# Altium footprint library Components - 25.02.24 - 14.16.PcbLib: 4 footprints
Each footprint in its own frame and in the unit in brackets; x right, y up, seen from the top. Pads: shape width x height; smd on the part's side, far side on the other; paste and mask are expansions set on the pad; w line width, h text height; cw(c..) or ccw(c..) is an arc to the next point about the centre after c.
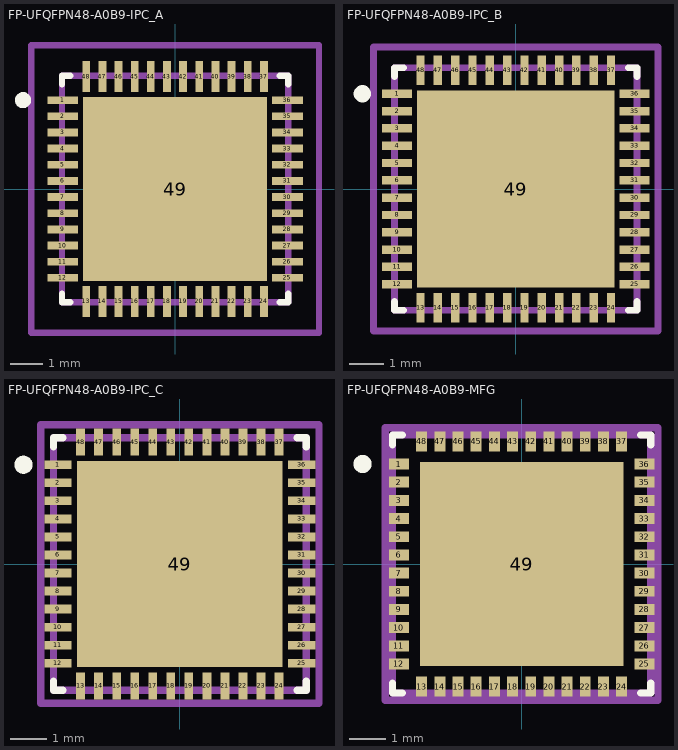
[diagram p0: the footprints below, top view; thin cyan lines are the x and y axes]

## FP-UFQFPN48-A0B9-IPC_A [mm]
pads (49):
  rect 0.956x0.242 smd paste+0: 1(-3.478,2.75) 2(-3.478,2.25) 3(-3.478,1.75) 4(-3.478,1.25) 5(-3.478,0.75) 6(-3.478,0.25) 7(-3.478,-0.25) 8(-3.478,-0.75) 9(-3.478,-1.25) 10(-3.478,-1.75) 11(-3.478,-2.25) 12(-3.478,-2.75) 25(3.478,-2.75) 26(3.478,-2.25) 27(3.478,-1.75) 28(3.478,-1.25) 29(3.478,-0.75) 30(3.478,-0.25) 31(3.478,0.25) 32(3.478,0.75) 33(3.478,1.25) 34(3.478,1.75) 35(3.478,2.25) 36(3.478,2.75)
  rect 0.242x0.956 smd paste+0: 13(-2.75,-3.478) 14(-2.25,-3.478) 15(-1.75,-3.478) 16(-1.25,-3.478) 17(-0.75,-3.478) 18(-0.25,-3.478) 19(0.25,-3.478) 20(0.75,-3.478) 21(1.25,-3.478) 22(1.75,-3.478) 23(2.25,-3.478) 24(2.75,-3.478) 37(2.75,3.478) 38(2.25,3.478) 39(1.75,3.478) 40(1.25,3.478) 41(0.75,3.478) 42(0.25,3.478) 43(-0.25,3.478) 44(-0.75,3.478) 45(-1.25,3.478) 46(-1.75,3.478) 47(-2.25,3.478) 48(-2.75,3.478)
  rect 5.7x5.7 smd paste-1000: 49(0,0)
Top Overlay:
  circle w0.25: c-4.706,2.75 r0.125
  lines w0.2: -3.5,-3.246 -3.5,-3.5 -3.246,-3.5 ; -3.5,3.246 -3.5,3.5 -3.246,3.5 ; 3.246,-3.5 3.5,-3.5 3.5,-3.246 ; 3.246,3.5 3.5,3.5 3.5,3.246
Top Paste:
  rectangle: -2.152,0.349 -0.349,2.152
  rectangle: 0.349,0.349 2.152,2.152
  rectangle: -2.152,-2.152 -0.349,-0.349
  rectangle: 0.349,-2.152 2.152,-0.349
Top Assembly:
  lines w0.2: -4.456,-4.456 4.456,-4.456 4.456,4.456 -4.456,4.456 -4.456,-4.456
  text ".Designator" at 0,-0.001 h1
Top 3D Body:
  lines w0.2: -3.5,-3.5 3.5,-3.5 3.5,3.5 -3.5,3.5 -3.5,-3.5
Top Courtyard:
  lines w0.2: -4.456,-4.456 4.456,-4.456 4.456,4.456 -4.456,4.456 -4.456,-4.456
Top Component Center:
  lines w0.1: -0.5,0 0.5,0 ; 0,-0.5 0,0.5

## FP-UFQFPN48-A0B9-IPC_B [mm]
pads (49):
  rect 0.856x0.242 smd paste+0: 1(-3.428,2.75) 2(-3.428,2.25) 3(-3.428,1.75) 4(-3.428,1.25) 5(-3.428,0.75) 6(-3.428,0.25) 7(-3.428,-0.25) 8(-3.428,-0.75) 9(-3.428,-1.25) 10(-3.428,-1.75) 11(-3.428,-2.25) 12(-3.428,-2.75) 25(3.428,-2.75) 26(3.428,-2.25) 27(3.428,-1.75) 28(3.428,-1.25) 29(3.428,-0.75) 30(3.428,-0.25) 31(3.428,0.25) 32(3.428,0.75) 33(3.428,1.25) 34(3.428,1.75) 35(3.428,2.25) 36(3.428,2.75)
  rect 0.242x0.856 smd paste+0: 13(-2.75,-3.428) 14(-2.25,-3.428) 15(-1.75,-3.428) 16(-1.25,-3.428) 17(-0.75,-3.428) 18(-0.25,-3.428) 19(0.25,-3.428) 20(0.75,-3.428) 21(1.25,-3.428) 22(1.75,-3.428) 23(2.25,-3.428) 24(2.75,-3.428) 37(2.75,3.428) 38(2.25,3.428) 39(1.75,3.428) 40(1.25,3.428) 41(0.75,3.428) 42(0.25,3.428) 43(-0.25,3.428) 44(-0.75,3.428) 45(-1.25,3.428) 46(-1.75,3.428) 47(-2.25,3.428) 48(-2.75,3.428)
  rect 5.7x5.7 smd paste-1000: 49(0,0)
Top Overlay:
  circle w0.25: c-4.431,2.75 r0.125
  lines w0.2: -3.5,-3.246 -3.5,-3.5 -3.246,-3.5 ; -3.5,3.246 -3.5,3.5 -3.246,3.5 ; 3.246,-3.5 3.5,-3.5 3.5,-3.246 ; 3.246,3.5 3.5,3.5 3.5,3.246
Top Paste:
  rectangle: 0.349,-2.152 2.152,-0.349
  rectangle: -2.152,-2.152 -0.349,-0.349
  rectangle: 0.349,0.349 2.152,2.152
  rectangle: -2.152,0.349 -0.349,2.152
Top Assembly:
  lines w0.2: -4.106,-4.106 -4.106,4.106 4.106,4.106 4.106,-4.106 -4.106,-4.106
  text ".Designator" at 0,-0.001 h1
Top 3D Body:
  lines w0.2: -3.5,-3.5 -3.5,3.5 3.5,3.5 3.5,-3.5 -3.5,-3.5
Top Courtyard:
  lines w0.2: -4.106,-4.106 -4.106,4.106 4.106,4.106 4.106,-4.106 -4.106,-4.106
Top Component Center:
  lines w0.1: -0.5,0 0.5,0 ; 0,-0.5 0,0.5

## FP-UFQFPN48-A0B9-IPC_C [mm]
pads (49):
  rect 0.756x0.242 smd paste+0: 1(-3.378,2.75) 2(-3.378,2.25) 3(-3.378,1.75) 4(-3.378,1.25) 5(-3.378,0.75) 6(-3.378,0.25) 7(-3.378,-0.25) 8(-3.378,-0.75) 9(-3.378,-1.25) 10(-3.378,-1.75) 11(-3.378,-2.25) 12(-3.378,-2.75) 25(3.378,-2.75) 26(3.378,-2.25) 27(3.378,-1.75) 28(3.378,-1.25) 29(3.378,-0.75) 30(3.378,-0.25) 31(3.378,0.25) 32(3.378,0.75) 33(3.378,1.25) 34(3.378,1.75) 35(3.378,2.25) 36(3.378,2.75)
  rect 0.242x0.756 smd paste+0: 13(-2.75,-3.378) 14(-2.25,-3.378) 15(-1.75,-3.378) 16(-1.25,-3.378) 17(-0.75,-3.378) 18(-0.25,-3.378) 19(0.25,-3.378) 20(0.75,-3.378) 21(1.25,-3.378) 22(1.75,-3.378) 23(2.25,-3.378) 24(2.75,-3.378) 37(2.75,3.378) 38(2.25,3.378) 39(1.75,3.378) 40(1.25,3.378) 41(0.75,3.378) 42(0.25,3.378) 43(-0.25,3.378) 44(-0.75,3.378) 45(-1.25,3.378) 46(-1.75,3.378) 47(-2.25,3.378) 48(-2.75,3.378)
  rect 5.7x5.7 smd paste-1000: 49(0,0)
Top Overlay:
  circle w0.25: c-4.331,2.75 r0.125
  lines w0.2: -3.5,-3.246 -3.5,-3.5 -3.246,-3.5 ; -3.5,3.246 -3.5,3.5 -3.246,3.5 ; 3.246,-3.5 3.5,-3.5 3.5,-3.246 ; 3.246,3.5 3.5,3.5 3.5,3.246
Top Paste:
  rectangle: -2.152,0.349 -0.349,2.152
  rectangle: 0.349,0.349 2.152,2.152
  rectangle: -2.152,-2.152 -0.349,-0.349
  rectangle: 0.349,-2.152 2.152,-0.349
Top Assembly:
  lines w0.2: -3.856,-3.856 3.856,-3.856 3.856,3.856 -3.856,3.856 -3.856,-3.856
  text ".Designator" at 0,-0.001 h1
Top 3D Body:
  lines w0.2: -3.5,-3.5 3.5,-3.5 3.5,3.5 -3.5,3.5 -3.5,-3.5
Top Courtyard:
  lines w0.2: -3.856,-3.856 3.856,-3.856 3.856,3.856 -3.856,3.856 -3.856,-3.856
Top Component Center:
  lines w0.1: -0.5,0 0.5,0 ; 0,-0.5 0,0.5

## FP-UFQFPN48-A0B9-MFG [mm]
pads (49):
  rect 0.55x0.3 smd paste+0: 1(-3.375,2.75) 2(-3.375,2.25) 3(-3.375,1.75) 4(-3.375,1.25) 5(-3.375,0.75) 6(-3.375,0.25) 7(-3.375,-0.25) 8(-3.375,-0.75) 9(-3.375,-1.25) 10(-3.375,-1.75) 11(-3.375,-2.25) 12(-3.375,-2.75) 25(3.375,-2.75) 26(3.375,-2.25) 27(3.375,-1.75) 28(3.375,-1.25) 29(3.375,-0.75) 30(3.375,-0.25) 31(3.375,0.25) 32(3.375,0.75) 33(3.375,1.25) 34(3.375,1.75) 35(3.375,2.25) 36(3.375,2.75)
  rect 0.3x0.55 smd paste+0: 13(-2.75,-3.375) 14(-2.25,-3.375) 15(-1.75,-3.375) 16(-1.25,-3.375) 17(-0.75,-3.375) 18(-0.25,-3.375) 19(0.25,-3.375) 20(0.75,-3.375) 21(1.25,-3.375) 22(1.75,-3.375) 23(2.25,-3.375) 24(2.75,-3.375) 37(2.75,3.375) 38(2.25,3.375) 39(1.75,3.375) 40(1.25,3.375) 41(0.75,3.375) 42(0.25,3.375) 43(-0.25,3.375) 44(-0.75,3.375) 45(-1.25,3.375) 46(-1.75,3.375) 47(-2.25,3.375) 48(-2.75,3.375)
  rect 5.6x5.6 smd paste+0: 49(0,0)
Top Overlay:
  circle w0.25: c-4.375,2.75 r0.125
  lines w0.2: -3.55,-3.275 -3.55,-3.55 -3.275,-3.55 ; -3.55,3.275 -3.55,3.55 -3.275,3.55 ; 3.275,-3.55 3.55,-3.55 3.55,-3.275 ; 3.275,3.55 3.55,3.55 3.55,3.275
Top Assembly:
  lines w0.2: -3.75,-3.75 -3.75,3.75 3.75,3.75 3.75,-3.75 -3.75,-3.75
  text ".Designator" at 0,0.188 h1
Top 3D Body:
  lines w0.2: -3.55,-3.55 -3.55,3.55 3.55,3.55 3.55,-3.55 -3.55,-3.55
Top Courtyard:
  lines w0.2: -3.75,-3.75 -3.75,3.75 3.75,3.75 3.75,-3.75 -3.75,-3.75
Top Component Center:
  lines w0.1: -0.5,0 0.5,0 ; 0,-0.5 0,0.5
3D body "IC_STMicroelectronics_STM32L452CEU6_eec.STEP": height 0.25, standoff 0, extent -3.75,-3.75 3.75,3.75